# Altium schematic symbol library IPB014N06N.SchLib: 1 symbol
Pins are listed as number, name and electrical type; pins without a type are passive.

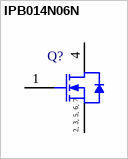
[diagram p0: symbol IPB014N06N]

## IPB014N06N
designator Q?
N-Channel OptiMOS Power-Transistor, 60 V VDS, 180 A ID, -55 to 175 degC, PG-TO263-7-1, Reel, Green; Manufacturer: Infineon; PartNumber: IPB014N06N; Green: TRUE; ID (max): 180 A; IDpuls (max): 720 A; Polarity: N; Ptot (max): 214 W; QG: 106 nC; RDS (on) (max): 1.4 mOhm; Rth: 0.7 K/W; RthJA (max): 62 K/W; VDS (max): 60 V; VGS(th) (max): 3.3 V; VGS(th) (min): 2.1 V; DatasheetVersion: Rev. 2.2; PackageVersion: May-07; PackageReference: PG-TO263-7-1; PackageDescription: 7-Pin Plastic (Green) Transistor Single Outline Package, 9.25 x 10 mm Body, 1.27 mm Pitch; Supplier 1: Digi-Key; Supplier Part Number 1: IPB014N06NTR-ND; Supplier 2: Digi-Key; Supplier Part Number 2: IPB014N06NCT-ND; Supplier 3: Digi-Key; Supplier Part Number 3: IPB014N06NDKR-ND; Supplier 4: Mouser; Supplier Part Number 4: N/A; Halogen-free: TRUE; Packing: Reel; RthJC (max): 0.7 K/W; Mounting Technology: Surface Mount; ComponentLink1Description: Manufacturer URL; ComponentLink1URL: http://www.infineon.com/; ComponentLink2Description: Datasheet; ComponentLink2URL: http://www.infineon.com/dgdl/IPB014N06N_Rev2.2.pdf?folderId=db3a304313b8b5a60113cee8763b02d7&fileId=db3a3043353fdc160135534e951e4873; ComponentLink3Description: Package Specification; ComponentLink3URL: http://www.infineon.com/dgdl/TLE5205-2_DS_11%5B1%5D.pdf?folderId=db3a30431b3e89eb011bb632994f065b&fileId=db3a30431f848401011fc747c7a0797f&sId=db3a30433d68e984013d7d43135b5b6a
footprint INF-PG-TO263-7-1_N (DPAK, 8-Leads, Body 10x9.25mm, Pitch 1.27mm, IPC Medium Density)
footprint INF-PG-TO263-7-1_L (DPAK, 8-Leads, Body 10x9.25mm, Pitch 1.27mm, IPC High Density)
footprint INF-PG-TO263-7-1_M (DPAK, 8-Leads, Body 10x9.25mm, Pitch 1.27mm, IPC Low Density)
pins: 1 GATE, 2 SOURCE, 3 SOURCE, 4 DRAIN, 5 SOURCE, 6 SOURCE, 7 SOURCE
text: 2, 3, 5, 6, 7